# Altium footprint library Specific Footprints.PcbLib: 54 footprints (part 1 of 4)
Each footprint in its own frame and in the unit in brackets; x right, y up, seen from the top. Pads: shape width x height; smd on the part's side, far side on the other; paste and mask are expansions set on the pad; w line width, h text height; cw(c..) or ccw(c..) is an arc to the next point about the centre after c.
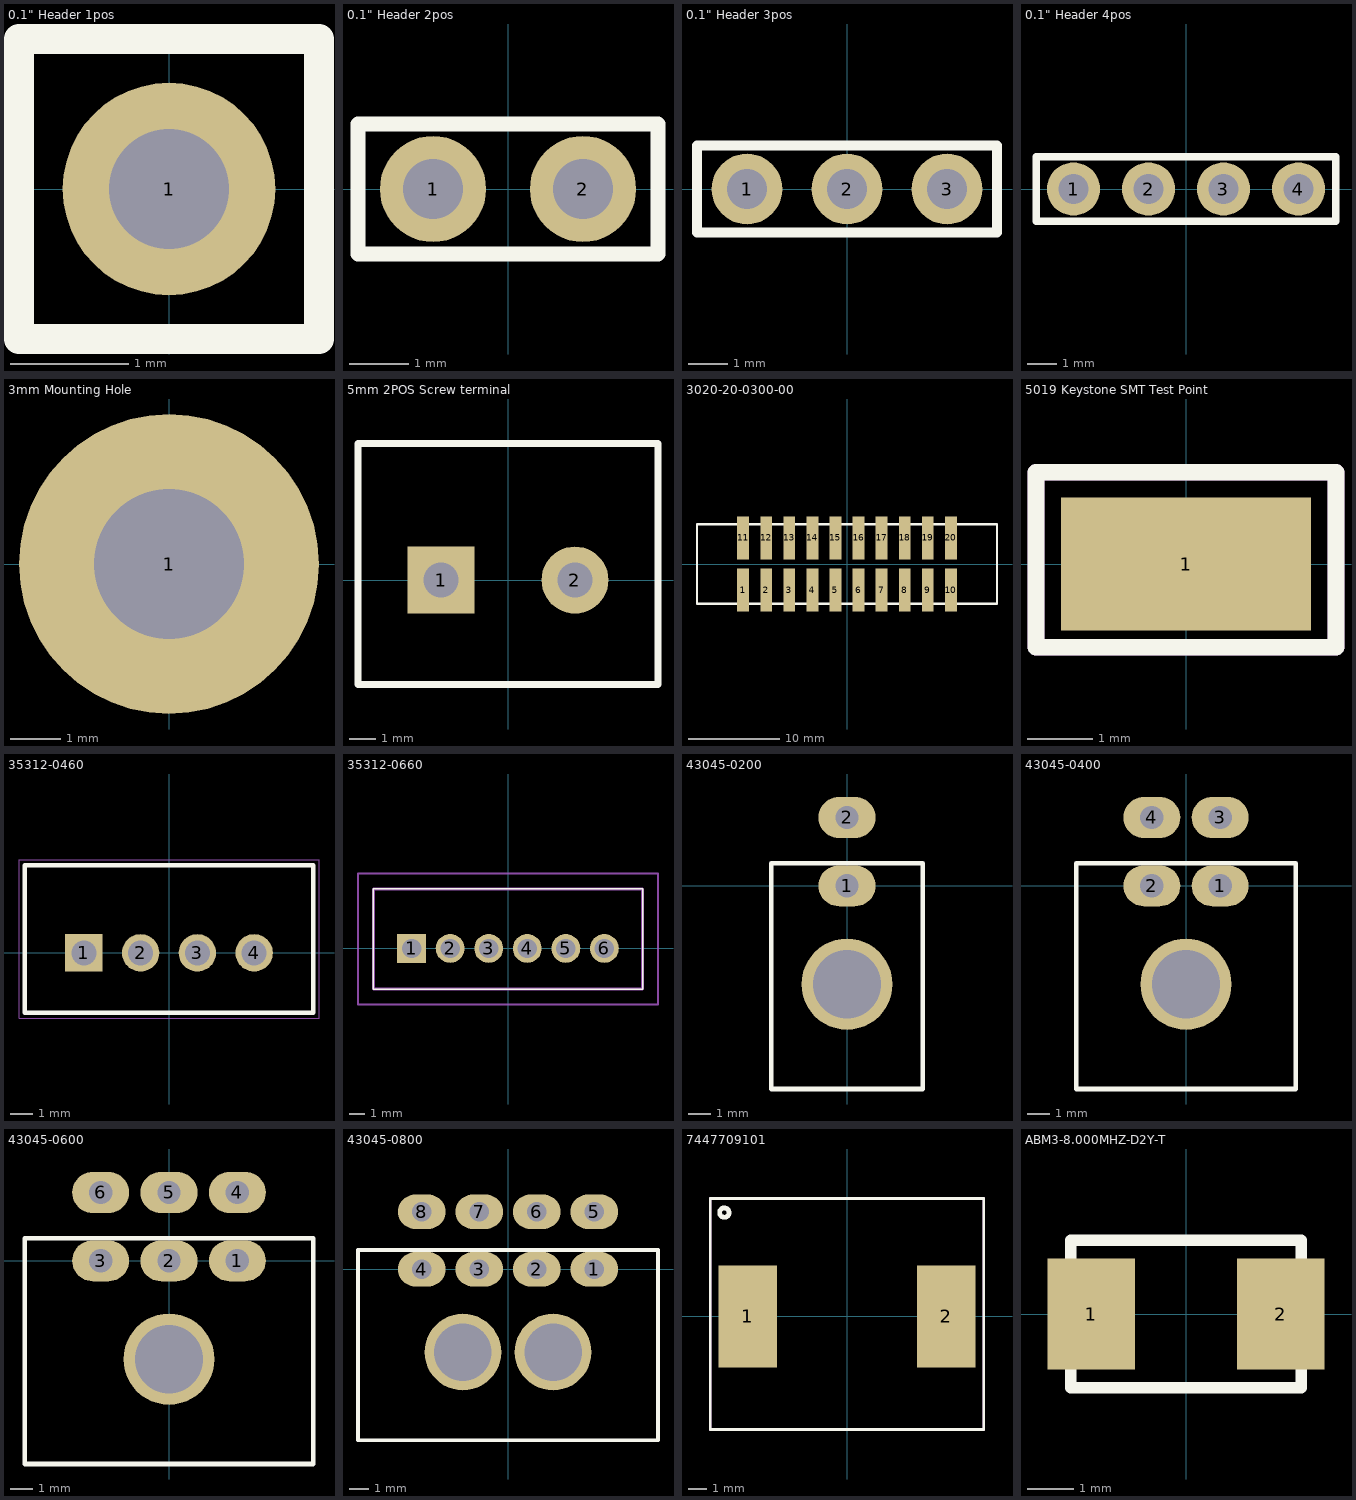
[diagram p0: the footprints below, top view; thin cyan lines are the x and y axes]

## 0.1" Header 1pos [mm]
pads (1):
  round 1.8 hole 1.02: 1(0,0)
Top Overlay:
  lines w0.254: -1.27,-1.27 1.27,-1.27 1.27,1.27 -1.27,1.27 -1.27,-1.27

## 0.1" Header 2pos [mm]
pads (2):
  round 1.8 hole 1.02: 1(-1.27,0) 2(1.27,0)
Top Overlay:
  lines w0.254: -2.54,-1.1 -2.54,1.1 2.54,1.1 2.54,-1.1 -2.54,-1.1

## 0.1" Header 3pos [mm]
pads (3):
  round 1.8 hole 1.02: 1(-2.54,0) 2(0,0) 3(2.54,0)
Top Overlay:
  lines w0.254: -3.81,-1.1 3.81,-1.1 3.81,1.1 -3.81,1.1 -3.81,-1.1

## 0.1" Header 4pos [mm]
pads (4):
  round 1.8 hole 1.02: 1(-3.81,0) 2(-1.27,0) 3(1.27,0) 4(3.81,0)
Top Overlay:
  lines w0.254: -5.08,-1.1 -5.08,1.1 5.08,1.1 5.08,-1.1 -5.08,-1.1

## 3mm Mounting Hole [mm]
pads (1):
  round 6 hole 3: 1(0,0)

## 5mm 2POS Screw terminal [mm]
pads (2):
  rect 2.5x2.5 hole 1.3: 1(-2.5,0)
  round 2.5 hole 1.3: 2(2.5,0)
Top Overlay:
  lines w0.254: -5.6,-3.9 5.6,-3.9 5.6,5.1 -5.6,5.1 -5.6,-3.9
3D body "ScrewTerminal.STEP": height 10.01, standoff -4.49, extent -5.044,-3.1 5.244,4.5

## 3020-20-0300-00 [mm]
pads (20):
  rect 1.3x4.75 smd: 1(-11.43,-2.875) 2(-8.89,-2.875) 3(-6.35,-2.875) 4(-3.81,-2.875) 5(-1.27,-2.875) 6(1.27,-2.875) 7(3.81,-2.875) 8(6.35,-2.875) 9(8.89,-2.875) 10(11.43,-2.875) 11(-11.43,2.875) 12(-8.89,2.875) 13(-6.35,2.875) 14(-3.81,2.875) 15(-1.27,2.875) 16(1.27,2.875) 17(3.81,2.875) 18(6.35,2.875) 19(8.89,2.875) 20(11.43,2.875)
Top Overlay:
  lines w0.254: -16.51,-4.375 16.51,-4.375 16.51,4.375 -16.51,4.375 -16.51,-4.375

## 5019 Keystone SMT Test Point [mil]
pads (1):
  rect 150x80 smd: 1(0,0)
Top Overlay:
  lines w10: -90,-50 -90,55 90,55 90,-50 -90,-50
Mechanical 5:
  lines w10: -90,-50 90,-50 90,55 -90,55 -90,-50
  text "'.Designator'" at -80,-15 h19.68
3D body "5019 KEYSTONE SMT TEST POINT.STEP": height 86.34, standoff -3.66, extent -75,-39.96 75,39.96

## 35312-0460 [mm]
pads (4):
  rect 1.65x1.65 hole 1.1: 1(-3.75,0)
  round 1.65 hole 1.1: 2(-1.25,0) 3(1.25,0) 4(3.75,0)
Top Overlay:
  lines w0.2: -6.355,-2.64 6.355,-2.64 6.355,3.86 -6.355,3.86 -6.355,-2.6
Mechanical 13:
  lines w0.1: -6.355,-2.64 6.355,-2.64 6.355,3.86 -6.355,3.86 -6.355,-2.64
Mechanical 15:
  lines w0.05: -6.605,-2.89 6.605,-2.89 6.605,4.11 -6.605,4.11 -6.605,-2.89

## 35312-0660 [mm]
pads (6):
  rect 1.875x1.875 hole 1.25: 1(-6.25,0)
  round 1.875 hole 1.25: 2(-3.75,0) 3(-1.25,0) 4(1.25,0) 5(3.75,0) 6(6.25,0)
Top Overlay:
  lines w0.1: -8.73,-2.64 -8.73,3.86 8.73,3.86 8.73,-2.64 -8.73,-2.64
Mechanical 13:
  lines w0.2: -8.73,-2.64 -8.73,3.86 8.73,3.86 8.73,-2.64 -8.73,-2.64
Mechanical 15:
  lines w0.1: -9.73,-3.64 -9.73,4.86 9.73,4.86 9.73,-3.64 -9.73,-3.64
3D body "35312-0660.stp": height 7, standoff -5, extent -8.73,-2.64 8.73,3.86

## 43045-0200 [mm]
pads (3):
  oval 2.5x1.8 hole 1.02: 1(0,0) 2(0,3)
  round 4 hole 3: ""(0,-4.32)
Top Overlay:
  lines w0.2: -3.325,-8.92 -3.325,1 3.325,1 3.325,-8.92 -3.325,-8.92
3D body "430450200.stp": height 8.78, standoff -3.17, extent -3.575,-9 3.575,3.24

## 43045-0400 [mm]
pads (5):
  oval 2.5x1.8 hole 1.02: 1(1.5,0) 2(-1.5,0) 3(1.5,3) 4(-1.5,3)
  round 4 hole 3: ""(0,-4.32)
Top Overlay:
  lines w0.2: -4.825,-8.92 4.825,-8.92 4.825,1 -4.825,1 -4.825,-8.92
3D body "430450400.stp": height 8.78, standoff -3.17, extent -5.075,-8.955 5.075,3.285

## 43045-0600 [mm]
pads (7):
  oval 2.5x1.8 hole 1.02: 1(3,0) 2(0,0) 3(-3,0) 4(3,3) 5(0,3) 6(-3,3)
  round 4 hole 3: ""(0,-4.32)
Top Overlay:
  lines w0.2: -6.325,-8.92 -6.325,1 6.325,1 6.325,-8.92 -6.325,-8.92
3D body "430450600.stp": height 8.78, standoff -3.17, extent -6.575,-8.955 6.575,3.285

## 43045-0800 [mm]
pads (10):
  oval 2.5x1.8 hole 1.02: 1(4.5,0) 2(1.5,0) 3(-1.5,0) 4(-4.5,0) 5(4.5,3) 6(1.5,3) 7(-1.5,3) 8(-4.5,3)
  round 4 hole 3: ""(-2.35,-4.32) ""(2.35,-4.32)
Top Overlay:
  lines w0.2: -7.825,-8.92 -7.825,1 7.825,1 7.825,-8.92 -7.825,-8.92
3D body "430450800.stp": height 8.78, standoff -3.17, extent -8.075,-8.955 8.075,3.285

## 7447709101 [mm]
pads (2):
  rect 3.1x5.4 smd: 1(-5.25,0) 2(5.25,0)
Top Overlay:
  circle w0.254: c-6.5,5.5 r0.25
  lines w0.152: -7.25,-6 -7.25,6.25 7.25,6.25 7.25,-6 -7.25,-6
Mechanical 5:
  lines w0.152: -7.25,-6 -7.25,6.25 7.25,6.25 7.25,-6 -7.25,-6
  text "'.Designator'" at -2.5,0 h1
3D body: height 2.54, standoff -2.54, extent -0.25,-1.125 -0.25,-1.125
3D body "7447709001_Download_STP_WE-PD-1210_rev1.stp": height 9.47, standoff 0.01, extent -6,-6 6,6

## ABM3-8.000MHZ-D2Y-T [mm] "8MHz ±20ppm Crystal 18pF 140 Ohms 2-SMD, No Lead"
pads (2):
  rect 1.9x2.4 smd: 1(-2.05,0) 2(2.05,0)
Top Overlay:
  lines w0.254: -2.5,-1.6 2.5,-1.6 2.5,1.6 -2.5,1.6 -2.5,-1.6
3D body "ABM3.STEP": height 1.32, standoff 0.01, extent -2.5,-1.6 2.5,1.6